# Altium schematic symbol library IC_MCP102.SchLib: 1 symbol
Pins are listed as number, name and electrical type; pins without a type are passive.

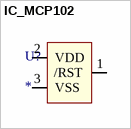
[diagram p0: symbol IC_MCP102]

## IC_MCP102
designator U?
pins: 1 /RST, 2 VDD, 3 VSS